# EAGLE library part RNX9 (library aq-resistor-net)
RESISTOR NETWORK
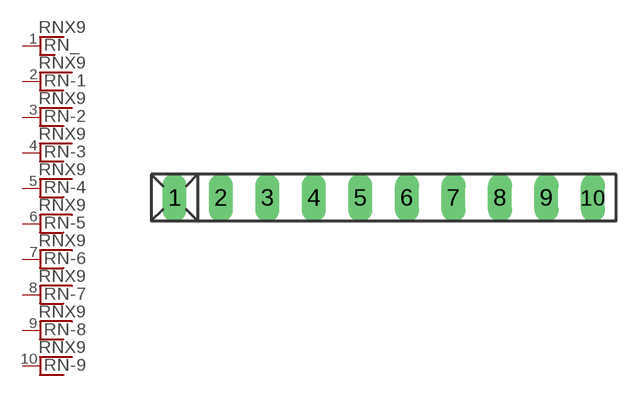
[diagram p13: symbol with the pads of RN-10; footprint RN-10]

Designator prefix RN; gates _=RN_1 -1=RNX -2=RNX -3=RNX -4=RNX -5=RNX -6=RNX -7=RNX -8=RNX -9=RNX

## RNX9 (OC_FARNELL: unknown; OC_NEWARK: unknown)  [RN-10]
1  _:1  pas
2  -1:1  pas
3  -2:1  pas
4  -3:1  pas
5  -4:1  pas
6  -5:1  pas
7  -6:1  pas
8  -7:1  pas
9  -8:1  pas
10  -9:1  pas

## Footprint RN-10 (pad centres in mm)
RESISTOR NETWORK
drill 0.813 long: 1 -11.43,0; 2 -8.89,0; 3 -6.35,0; 4 -3.81,0; 5 -1.27,0; 6 1.27,0; 7 3.81,0; 8 6.35,0; 9 8.89,0; 10 11.43,0